# Altium schematic symbol library TPL503115-S5TR.SchLib: 2 symbols
Pins are listed as number, name and electrical type; pins without a type are passive.

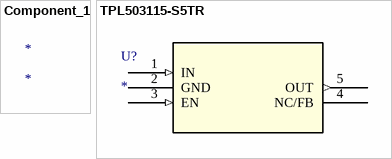
[diagram p0: symbols Component_1 to TPL503115-S5TR]

## Component_1
designator *

## TPL503115-S5TR
designator U?
No Description Available; Mfr_Name: 3Peak; RefDes: RefDes; Type: Type
footprint SOT23-5-A_TPK
pins: 1 IN (in), 2 GND (power), 3 EN (in), 4 NC/FB, 5 OUT (out)